# Altium schematic symbol library LibComposant1819.SchLib: 6 symbols
Pins are listed as number, name and electrical type; pins without a type are passive.

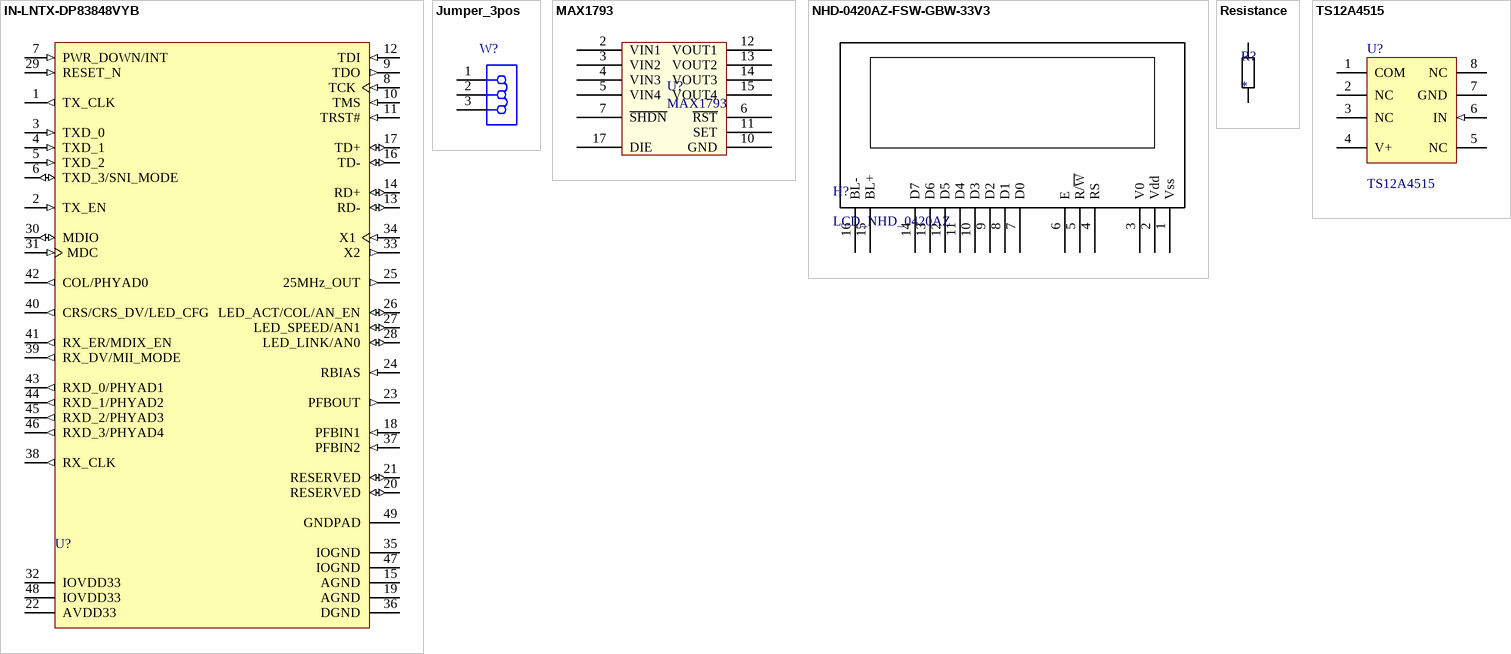
[diagram p0: symbols IN-LNTX-DP83848VYB to TS12A4515]

## IN-LNTX-DP83848VYB
designator U?
pins: 1 TX_CLK (out), 2 TX_EN (in), 3 TXD_0 (in), 4 TXD_1 (in), 5 TXD_2 (in), 6 TXD_3/SNI_MODE (io), 7 PWR_DOWN/INT (in), 8 TCK (in), 9 TDO (out), 10 TMS (in), 11 TRST# (in), 12 TDI (in), 13 RD- (io), 14 RD+ (io), 15 AGND (power), 16 TD- (io), 17 TD+ (io), 18 PFBIN1 (in), 19 AGND (power), 20 RESERVED (io), 21 RESERVED (io), 22 AVDD33 (power), 23 PFBOUT (out), 24 RBIAS (in), 25 25MHz_OUT (out), 26 LED_ACT/COL/AN_EN (io), 27 LED_SPEED/AN1 (io), 28 LED_LINK/AN0 (io), 29 RESET_N (in), 30 MDIO (io), 31 MDC (in), 32 IOVDD33 (power), 33 X2 (out), 34 X1 (in), 35 IOGND (power), 36 DGND (power), 37 PFBIN2 (in), 38 RX_CLK (out), 39 RX_DV/MII_MODE (out), 40 CRS/CRS_DV/LED_CFG (out), 41 RX_ER/MDIX_EN (out), 42 COL/PHYAD0 (out), 43 RXD_0/PHYAD1 (out), 44 RXD_1/PHYAD2 (out), 45 RXD_2/PHYAD3 (out), 46 RXD_3/PHYAD4 (out), 47 IOGND (power), 48 IOVDD33 (power), 49 GNDPAD (power)

## Jumper_3pos
designator W?
footprint Jumper_3pos
pins: 1, 2, 3

## MAX1793
designator U?
footprint MAX1793
pins: 2 VIN1, 3 VIN2, 4 VIN3, 5 VIN4, 6 ~{RST}, 7 ~{SHDN}, 10 GND, 11 SET, 12 VOUT1, 13 VOUT2, 14 VOUT3, 15 VOUT4, 17 DIE

## NHD-0420AZ-FSW-GBW-33V3
designator H?, comment LCD_NHD_0420AZ
footprint NHD-0420AZ-FSW-GBW-33V3 (Ecran LCD 3V3)
pins: 1 Vss, 2 Vdd, 3 V0, 4 RS, 5 R/~{W}, 6 E, 7 D0, 8 D1, 9 D2, 10 D3, 11 D4, 12 D5, 13 D6, 14 D7, 15 BL+, 16 BL-

## Resistance
designator R?
footprint RESC0805(2012)_L
pins: 1, 2

## TS12A4515
designator U?
Dual Supply, Low On-State Resistance SPST CMOS Analog Switch, -40 to 85 degC, 8-Pin SOIC (D8), RoHS, Tube; Manufacturer: Texas Instruments; PartNumber: TS12A4516D; Channels: 1; Ron: 25 Ohm Max.; PackageDescription: 8-Pin Plastic Small Outline, Body 4.9 x 3.9 mm, Pitch 1.27 mm; ComponentLink1URL: http://www.ti.com/; Packing: Tube; ComponentLink2Description: Datasheet; PackageVersion: 4040047-3/M; Switch Configuration: SPST; ComponentLink1Description: Manufacturer URL; DatasheetVersion: SCDS236B; Temperature Range: -40 to 85 degC; ComponentLink3Description: Package Specification; PackageReference: D0008A; ComponentLink3URL: http://www.ti.com/lit/ml/msoi002j/msoi002j.pdf; RoHS: TRUE; ComponentLink2URL: http://www.ti.com/lit/ds/symlink/ts12a4516.pdf; Mounting Technology: Surface Mount
footprint TI-D8_L (SOIC, 8-Leads, Body 4.9x3.9mm, Pitch 1.27mm, IPC High Density)
pins: 1 COM, 2 NC, 3 NC, 4 V+ (power), 5 NC, 6 IN (in), 7 GND (power), 8 NC